# Altium schematic symbol library SCH - CONNECTORS - JST BM08B-SURS-TF.Schlib: 1 symbol
Pins are listed as number, name and electrical type; pins without a type are passive.

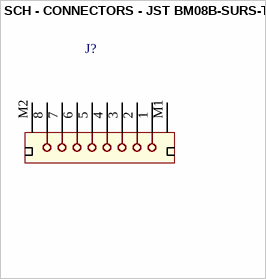
[diagram p0: symbol SCH - CONNECTORS - JST BM08B-SURS-TF]

## SCH - CONNECTORS - JST BM08B-SURS-TF
designator J?
footprint BM08B-SURS-TF
pins: 1, 2, 3, 4, 5, 6, 7, 8, M1, M2